# Altium schematic symbol library CMT-0502-03-SMT-TR.SchLib: 1 symbol
Pins are listed as number, name and electrical type; pins without a type are passive.

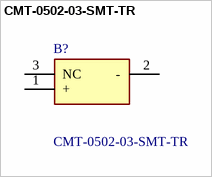
[diagram p0: symbol CMT-0502-03-SMT-TR]

## CMT-0502-03-SMT-TR
designator B?
CMT-0502-03-SMT-TR - 5 mm, 3 Vo-p, 75 dB, Surface Mount, Magnetic Audio Transducer Buzzer; Manufacturer_Name: Same Sky; Geometry.Height: 2.3mm; Manufacturer_Part_Number: CMT-0502-03-SMT-TR; Mouser Part Number: *; Mouser Price/Stock: *; Arrow Part Number: CMT-0502-03-SMT-TR; Arrow Price/Stock: https://www.arrow.com/en/products/cmt-0502-03-smt-tr/cui-devices?utm_currency=USD&region=europe; Datasheet Link: https://www.sameskydevices.com/product/resource/CMT-0502-03-SMT-TR.pdf
footprint CMT050203SMTTR
pins: 1 +, 2 -, 3 NC